# EAGLE library part MCP2562 (library MICROCHIP)
MCP2562 High Speed CAN Tranceiver The MCP2561/2 is Microchip Technology Inc. second generation high-speed CAN transceiver. It serves as an interface between a CAN protocol controller and the physical two-wire CAN bus. The device meets the automotive requirements for high-speed (1 Mb/s), low quiescent current, electromagnetic compatibility (EMC) and electrostatic discharge (ESD). The device family members are: • MCP2561 with SPLIT pin • MCP2562 with VIO pin Datasheet <http://ww1.microchip.com/downloads/en/DeviceDoc/20005167C.pdf> Microchip <https://www.microchip.com/wwwproducts/en/MCP2562> Digikey <https://www.digikey.com/product-detail/en/microchip-technology/MCP2562T-E-SN/MCP2562T-E-SNCT-ND/5011025>
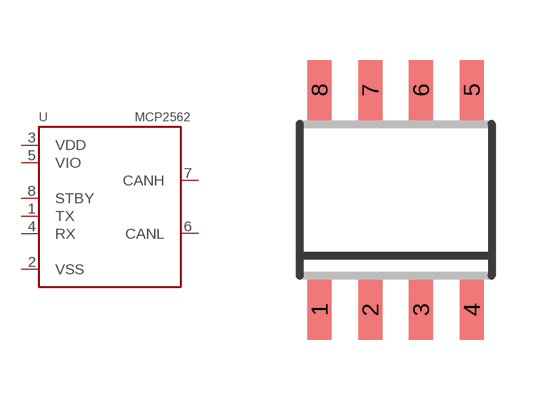
[diagram p2: symbol with the pads of SOIC8; footprint SOIC8]

Designator prefix -

## MCP2562  [SOIC8]
1  TX
2  VSS
3  VDD
4  RX
5  VIO
6  CANL
7  CANH
8  STBY

## Footprint SOIC8 (pad centres in mm)
SOIC-8 CASE 751-07 Source: http://www.onsemi.com/pub/Collateral/MC34164-D.PDF D (R-PDSO-G8)PLATIC SMALL-OUTLINE PACKAGE Source: http://focus.ti.com/lit/ds/symlink/tlc27l2.pdf
smd 0.6 x 1.5: 1 -1.905,-2.75; 2 -0.635,-2.75; 3 0.635,-2.75; 4 1.905,-2.75; 5 1.905,2.75; 6 0.635,2.75; 7 -0.635,2.75; 8 -1.905,2.75